# EAGLE library part TTP223 (library drag-semiconductors)
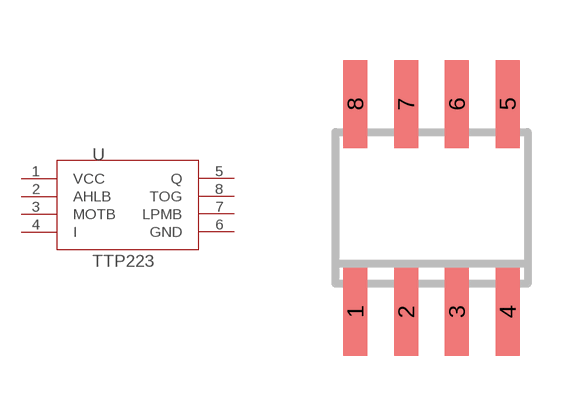
[diagram p5: symbol with the pads of SOIC8; footprint SOIC8]

Designator prefix U

## TTP223SOIC8  [SOIC8]
1  VCC
2  AHLB
3  MOTB
4  I
5  Q
6  GND
7  LPMB
8  TOG

## Footprint SOIC8 (pad centres in mm)
smd 0.6 x 2.2: 1 -1.905,-2.6; 2 -0.635,-2.6; 3 0.635,-2.6; 4 1.905,-2.6; 5 1.905,2.6; 6 0.635,2.6; 7 -0.635,2.6; 8 -1.905,2.6